# Altium integrated library 1-103904-0.IntLib: 2 symbols
Pins are listed as number, name and electrical type; pins without a type are passive.

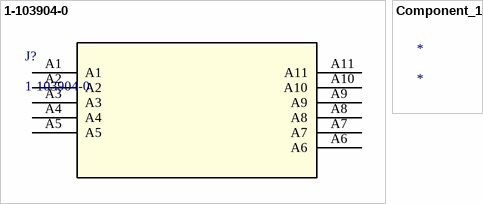
[diagram p0: symbols 1-103904-0 to Component_1]

## 1-103904-0
designator J?
No Description Available; Mfr_Name: TE Connectivity; Copyright: Copyright (C) 2022 Ultra Librarian. All rights reserved.; Manufacturer_Part_Number: 1-103904-0; RefDes: RefDes; Type: DEV
footprint 1-103904-0_TYC
pins: A1, A2, A3, A4, A5, A6, A7, A8, A9, A10, A11

## Component_1
designator *